# Altium footprint library Detectors.PcbLib: 58 footprints (part 1 of 4)
Each footprint in its own frame and in the unit in brackets; x right, y up, seen from the top. Pads: shape width x height; smd on the part's side, far side on the other; paste and mask are expansions set on the pad; w line width, h text height; cw(c..) or ccw(c..) is an arc to the next point about the centre after c.
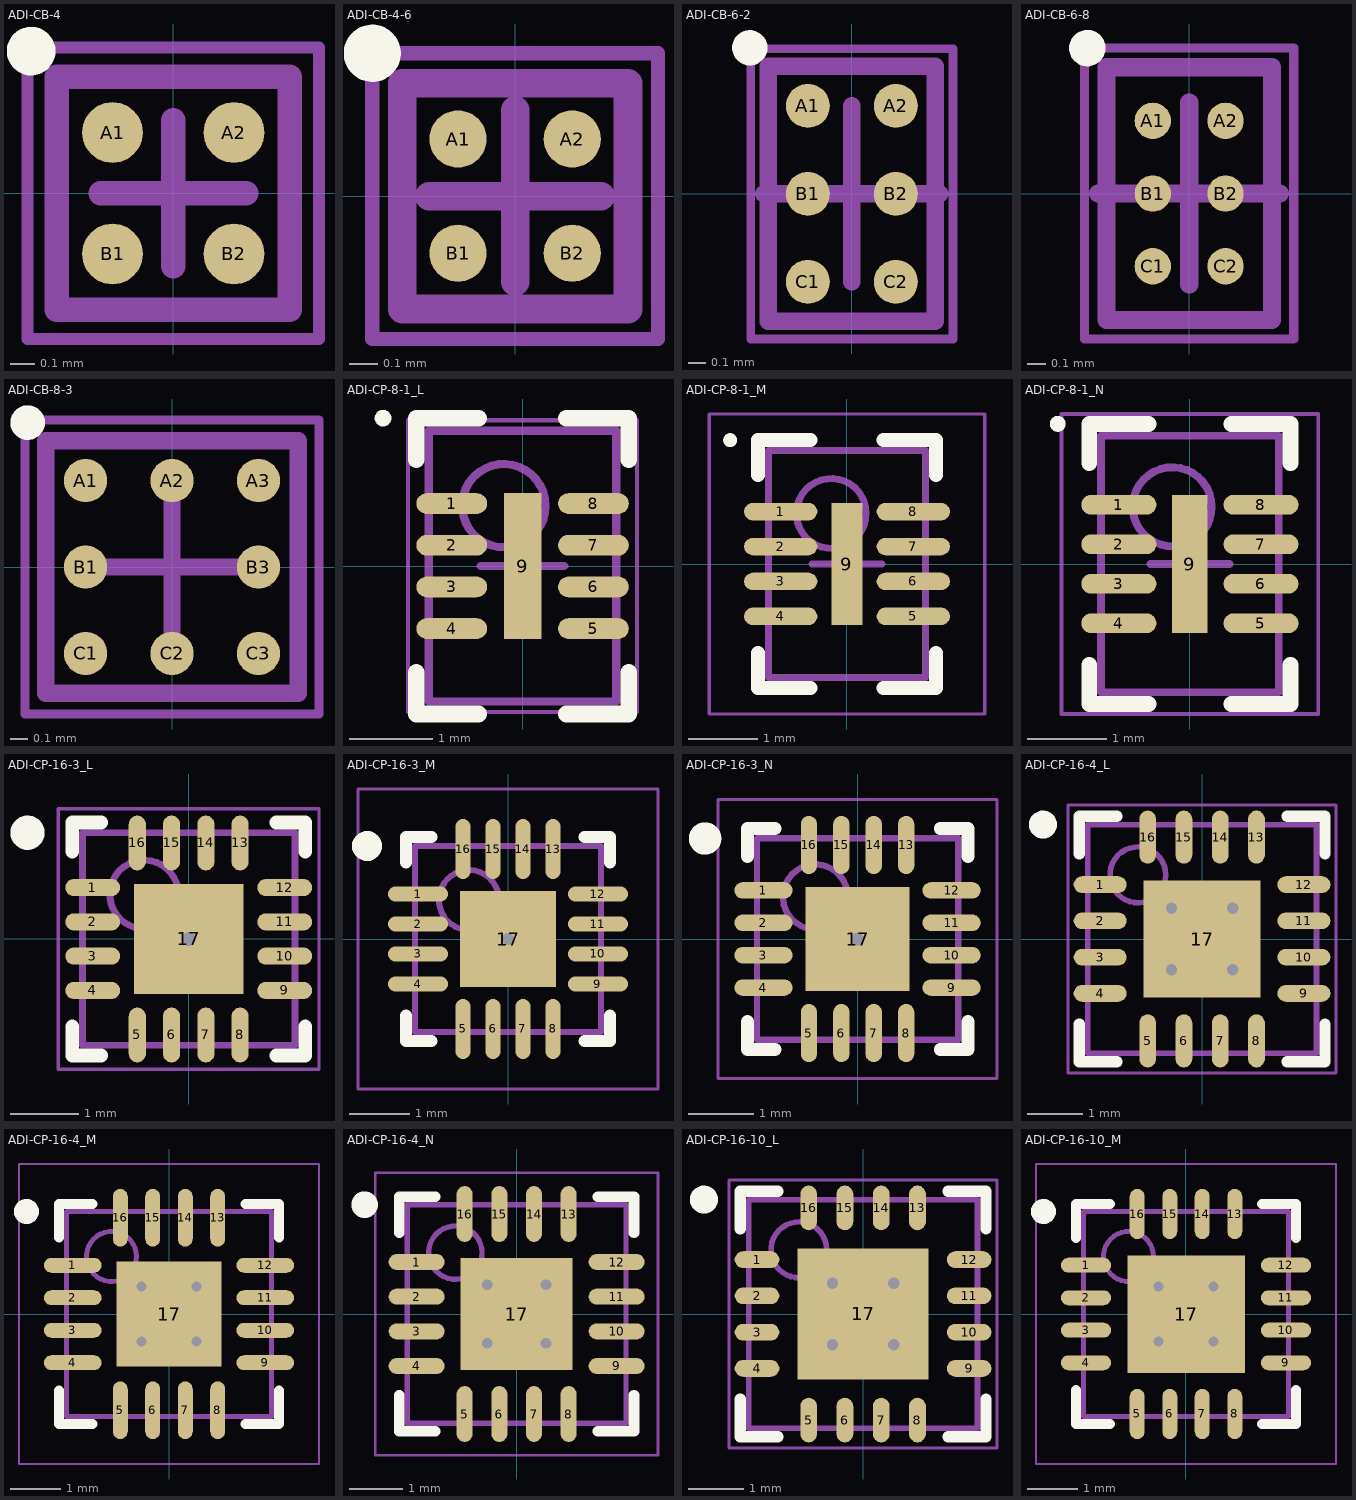
[diagram p0: the footprints below, top view; thin cyan lines are the x and y axes]

## ADI-CB-4 [mm] "BGA, 4-Leads, Body 0.96x0.96mm, Pitch 0.5mm"
height 0.68
pads (4):
  round 0.25 smd: A1(-0.25,0.25) A2(0.25,0.25) B1(-0.25,-0.25) B2(0.25,-0.25)
Top Overlay:
  circle w0.1: c-0.585,0.585 r0.05
Mechanical 13:
  lines w0.1: -0.48,-0.48 -0.48,0.48 0.48,0.48 0.48,-0.48 -0.48,-0.48
Mechanical 15:
  lines w0.05: -0.6,-0.6 -0.6,0.6 0.6,0.6 0.6,-0.6 -0.6,-0.6
  lines w0.1: -0.3,0 0.3,0 ; 0,-0.3 0,0.3
3D body: height 0.68, standoff 0, extent -0.48,-0.48 0.48,0.48

## ADI-CB-4-6 [mm] "BGA, 4-Leads, Body 0.79x0.79mm, Pitch 0.4mm"
height 0.66
pads (4):
  round 0.2 smd: A1(-0.2,0.2) A2(0.2,0.2) B1(-0.2,-0.2) B2(0.2,-0.2)
Top Overlay:
  circle w0.1: c-0.5,0.5 r0.05
Mechanical 13:
  lines w0.1: -0.395,-0.395 0.395,-0.395 0.395,0.395 -0.395,0.395 -0.395,-0.395
Mechanical 15:
  lines w0.05: -0.5,-0.5 0.5,-0.5 0.5,0.5 -0.5,0.5 -0.5,-0.5
  lines w0.1: -0.3,0 0.3,0 ; 0,-0.3 0,0.3
3D body: height 0.66, standoff 0, extent -0.395,-0.395 0.395,0.395

## ADI-CB-6-2 [mm] "BGA, 6-Leads, Body 1.5x1mm, Pitch 0.5mm"
height 0.68
pads (6):
  round 0.25 smd: A1(-0.25,0.5) A2(0.25,0.5) B1(-0.25,0) B2(0.25,0) C1(-0.25,-0.5) C2(0.25,-0.5)
Top Overlay:
  circle w0.1: c-0.58,0.83 r0.05
Mechanical 13:
  lines w0.1: -0.475,-0.725 -0.475,0.725 0.475,0.725 0.475,-0.725 -0.475,-0.725
Mechanical 15:
  lines w0.05: -0.575,-0.825 -0.575,0.825 0.575,0.825 0.575,-0.825 -0.575,-0.825
  lines w0.1: -0.5,0 0.5,0 ; 0,-0.5 0,0.5
3D body: height 0.68, standoff 0, extent -0.475,-0.725 0.475,0.725

## ADI-CB-6-8 [mm] "BGA, 6-Leads, Body 1.4x1mm, Pitch 0.4mm"
height 0.65
pads (6):
  round 0.2 smd: A1(-0.2,0.4) A2(0.2,0.4) B1(-0.2,0) B2(0.2,0) C1(-0.2,-0.4) C2(0.2,-0.4)
Top Overlay:
  circle w0.1: c-0.56,0.8 r0.05
Mechanical 13:
  lines w0.1: -0.455,-0.695 -0.455,0.695 0.455,0.695 0.455,-0.695 -0.455,-0.695
Mechanical 15:
  lines w0.05: -0.575,-0.8 -0.575,0.8 0.575,0.8 0.575,-0.8 -0.575,-0.8
  lines w0.1: -0.5,0 0.5,0 ; 0,-0.5 0,0.5
3D body: height 0.65, standoff 0, extent -0.455,-0.695 0.455,0.695

## ADI-CB-8-3 [mm] "BGA, 8-Leads, Body 1.46x1.46mm, Pitch 0.5mm"
height 0.63
pads (8):
  round 0.25 smd: A1(-0.5,0.5) A2(0,0.5) A3(0.5,0.5) B1(-0.5,0) B3(0.5,0) C1(-0.5,-0.5) C2(0,-0.5) C3(0.5,-0.5)
Top Overlay:
  circle w0.1: c-0.835,0.835 r0.05
Mechanical 13:
  lines w0.1: -0.73,-0.73 0.73,-0.73 0.73,0.73 -0.73,0.73 -0.73,-0.73
Mechanical 15:
  lines w0.05: -0.85,-0.85 0.85,-0.85 0.85,0.85 -0.85,0.85 -0.85,-0.85
  lines w0.1: -0.5,0 0.5,0 ; 0,-0.5 0,0.5
3D body: height 0.63, standoff 0, extent -0.73,-0.73 0.73,0.73

## ADI-CP-8-1_L [mm] "SON, 8-Leads, Body 3x2mm, Pitch 0.5mm, Thermal Pad 1.75x0.45mm, IPC High Density"
height 1
pads (9):
  oval 0.85x0.25 smd: 1(-0.85,0.75) 2(-0.85,0.25) 3(-0.85,-0.25) 4(-0.85,-0.75) 5(0.85,-0.75) 6(0.85,-0.25) 7(0.85,0.25) 8(0.85,0.75)
  rect 0.45x1.75 smd: 9(0,0)
Top Overlay:
  circle w0.1: c-1.675,1.775 r0.05
  lines w0.2: -1.275,-1.275 -1.275,-1.775 -0.525,-1.775 ; -1.275,1.275 -1.275,1.775 -0.525,1.775 ; 0.525,-1.775 1.275,-1.775 1.275,-1.275 ; 0.525,1.775 1.275,1.775 1.275,1.275
Mechanical 13:
  circle w0.1: c-0.225,0.725 r0.5
  lines w0.1: -1.125,-1.625 1.125,-1.625 1.125,1.625 -1.125,1.625 -1.125,-1.625
Mechanical 15:
  lines w0.05: -1.375,-1.75 1.375,-1.75 1.375,1.75 -1.375,1.75 -1.375,-1.75
  lines w0.1: -0.5,0 0.5,0 ; 0,-0.5 0,0.5
3D body: height 1, standoff 0, extent -1.125,-1.625 1.125,1.625

## ADI-CP-8-1_M [mm] "SON, 8-Leads, Body 3x2mm, Pitch 0.5mm, Thermal Pad 1.75x0.45mm, IPC Low Density"
height 1
pads (9):
  oval 1.05x0.25 smd: 1(-0.95,0.75) 2(-0.95,0.25) 3(-0.95,-0.25) 4(-0.95,-0.75) 5(0.95,-0.75) 6(0.95,-0.25) 7(0.95,0.25) 8(0.95,0.75)
  rect 0.45x1.75 smd: 9(0,0)
Top Overlay:
  circle w0.1: c-1.675,1.775 r0.05
  lines w0.2: -1.275,-1.275 -1.275,-1.775 -0.525,-1.775 ; -1.275,1.275 -1.275,1.775 -0.525,1.775 ; 0.525,-1.775 1.275,-1.775 1.275,-1.275 ; 0.525,1.775 1.275,1.775 1.275,1.275
Mechanical 13:
  circle w0.1: c-0.225,0.725 r0.5
  lines w0.1: -1.125,-1.625 1.125,-1.625 1.125,1.625 -1.125,1.625 -1.125,-1.625
Mechanical 15:
  lines w0.05: -1.975,-2.15 1.975,-2.15 1.975,2.15 -1.975,2.15 -1.975,-2.15
  lines w0.1: -0.5,0 0.5,0 ; 0,-0.5 0,0.5
3D body: height 1, standoff 0, extent -1.125,-1.625 1.125,1.625

## ADI-CP-8-1_N [mm] "SON, 8-Leads, Body 3x2mm, Pitch 0.5mm, Thermal Pad 1.75x0.45mm, IPC Medium Density"
height 1
pads (9):
  oval 0.95x0.25 smd: 1(-0.9,0.75) 2(-0.9,0.25) 3(-0.9,-0.25) 4(-0.9,-0.75) 5(0.9,-0.75) 6(0.9,-0.25) 7(0.9,0.25) 8(0.9,0.75)
  rect 0.45x1.75 smd: 9(0,0)
Top Overlay:
  circle w0.1: c-1.675,1.775 r0.05
  lines w0.2: -1.275,-1.275 -1.275,-1.775 -0.525,-1.775 ; -1.275,1.275 -1.275,1.775 -0.525,1.775 ; 0.525,-1.775 1.275,-1.775 1.275,-1.275 ; 0.525,1.775 1.275,1.775 1.275,1.275
Mechanical 13:
  circle w0.1: c-0.225,0.725 r0.5
  lines w0.1: -1.125,-1.625 1.125,-1.625 1.125,1.625 -1.125,1.625 -1.125,-1.625
Mechanical 15:
  lines w0.05: -1.625,-1.9 1.625,-1.9 1.625,1.9 -1.625,1.9 -1.625,-1.9
  lines w0.1: -0.5,0 0.5,0 ; 0,-0.5 0,0.5
3D body: height 1, standoff 0, extent -1.125,-1.625 1.125,1.625

## ADI-CP-16-3_L [mm] "QFN, 16-Leads, Body 3x3mm, Pitch 0.5mm, Thermal Pad 1.5x1.5mm, IPC High Density"
height 0.9
pads (17):
  oval 0.8x0.25 smd: 1(-1.4,0.75) 2(-1.4,0.25) 3(-1.4,-0.25) 4(-1.4,-0.75) 9(1.4,-0.75) 10(1.4,-0.25) 11(1.4,0.25) 12(1.4,0.75)
  oval 0.25x0.8 smd: 5(-0.75,-1.4) 6(-0.25,-1.4) 7(0.25,-1.4) 8(0.75,-1.4) 13(0.75,1.4) 14(0.25,1.4) 15(-0.25,1.4) 16(-0.75,1.4)
  rect 1.6x1.6 smd: 17(0,0)
via 0,0 diameter 0.5 hole 0.2
Top Overlay:
  circle w0.25: c-2.35,1.55 r0.125
  lines w0.2: -1.7,-1.275 -1.7,-1.7 -1.275,-1.7 ; -1.7,1.275 -1.7,1.7 -1.275,1.7 ; 1.275,-1.7 1.7,-1.7 1.7,-1.275 ; 1.275,1.7 1.7,1.7 1.7,1.275
Mechanical 13:
  circle w0.1: c-0.65,0.65 r0.5
  lines w0.1: -1.55,-1.55 1.55,-1.55 1.55,1.55 -1.55,1.55 -1.55,-1.55
Mechanical 15:
  lines w0.05: -1.9,-1.9 1.9,-1.9 1.9,1.9 -1.9,1.9 -1.9,-1.9
  lines w0.1: -0.5,0 0.5,0 ; 0,-0.5 0,0.5
3D body: height 0.9, standoff 0, extent -1.55,-1.55 1.55,1.55

## ADI-CP-16-3_M [mm] "QFN, 16-Leads, Body 3x3mm, Pitch 0.5mm, Thermal Pad 1.5x1.5mm, IPC Low Density"
height 0.9
pads (17):
  oval 1x0.25 smd: 1(-1.5,0.75) 2(-1.5,0.25) 3(-1.5,-0.25) 4(-1.5,-0.75) 9(1.5,-0.75) 10(1.5,-0.25) 11(1.5,0.25) 12(1.5,0.75)
  oval 0.25x1 smd: 5(-0.75,-1.5) 6(-0.25,-1.5) 7(0.25,-1.5) 8(0.75,-1.5) 13(0.75,1.5) 14(0.25,1.5) 15(-0.25,1.5) 16(-0.75,1.5)
  rect 1.6x1.6 smd: 17(0,0)
via 0,0 diameter 0.5 hole 0.2
Top Overlay:
  circle w0.25: c-2.35,1.55 r0.125
  lines w0.2: -1.7,-1.275 -1.7,-1.7 -1.275,-1.7 ; -1.7,1.275 -1.7,1.7 -1.275,1.7 ; 1.275,-1.7 1.7,-1.7 1.7,-1.275 ; 1.275,1.7 1.7,1.7 1.7,1.275
Mechanical 13:
  circle w0.1: c-0.65,0.65 r0.5
  lines w0.1: -1.55,-1.55 1.55,-1.55 1.55,1.55 -1.55,1.55 -1.55,-1.55
Mechanical 15:
  lines w0.05: -2.5,-2.5 2.5,-2.5 2.5,2.5 -2.5,2.5 -2.5,-2.5
  lines w0.1: -0.5,0 0.5,0 ; 0,-0.5 0,0.5
3D body: height 0.9, standoff 0, extent -1.55,-1.55 1.55,1.55

## ADI-CP-16-3_N [mm] "QFN, 16-Leads, Body 3x3mm, Pitch 0.5mm, Thermal Pad 1.5x1.5mm, IPC Medium Density"
height 0.9
pads (17):
  oval 0.9x0.25 smd: 1(-1.45,0.75) 2(-1.45,0.25) 3(-1.45,-0.25) 4(-1.45,-0.75) 9(1.45,-0.75) 10(1.45,-0.25) 11(1.45,0.25) 12(1.45,0.75)
  oval 0.25x0.9 smd: 5(-0.75,-1.45) 6(-0.25,-1.45) 7(0.25,-1.45) 8(0.75,-1.45) 13(0.75,1.45) 14(0.25,1.45) 15(-0.25,1.45) 16(-0.75,1.45)
  rect 1.6x1.6 smd: 17(0,0)
via 0,0 diameter 0.5 hole 0.2
Top Overlay:
  circle w0.25: c-2.35,1.55 r0.125
  lines w0.2: -1.7,-1.275 -1.7,-1.7 -1.275,-1.7 ; -1.7,1.275 -1.7,1.7 -1.275,1.7 ; 1.275,-1.7 1.7,-1.7 1.7,-1.275 ; 1.275,1.7 1.7,1.7 1.7,1.275
Mechanical 13:
  circle w0.1: c-0.65,0.65 r0.5
  lines w0.1: -1.55,-1.55 1.55,-1.55 1.55,1.55 -1.55,1.55 -1.55,-1.55
Mechanical 15:
  lines w0.05: -2.15,-2.15 2.15,-2.15 2.15,2.15 -2.15,2.15 -2.15,-2.15
  lines w0.1: -0.5,0 0.5,0 ; 0,-0.5 0,0.5
3D body: height 0.9, standoff 0, extent -1.55,-1.55 1.55,1.55

## ADI-CP-16-4_L [mm] "QFN, 16-Leads, Body 4x4mm, Pitch 0.65mm, Thermal Pad 2.1x2.1mm, IPC High Density"
height 1
pads (17):
  oval 0.95x0.3 smd: 1(-1.825,0.975) 2(-1.825,0.325) 3(-1.825,-0.325) 4(-1.825,-0.975) 9(1.825,-0.975) 10(1.825,-0.325) 11(1.825,0.325) 12(1.825,0.975)
  oval 0.3x0.95 smd: 5(-0.975,-1.825) 6(-0.325,-1.825) 7(0.325,-1.825) 8(0.975,-1.825) 13(0.975,1.825) 14(0.325,1.825) 15(-0.325,1.825) 16(-0.975,1.825)
  rect 2.1x2.1 smd: 17(0,0)
via 0.55,-0.55 diameter 0.5 hole 0.2
via -0.55,-0.55 diameter 0.5 hole 0.2
via 0.55,0.55 diameter 0.5 hole 0.2
via -0.55,0.55 diameter 0.5 hole 0.2
Top Overlay:
  circle w0.25: c-2.85,2.05 r0.125
  lines w0.2: -2.2,-1.525 -2.2,-2.2 -1.525,-2.2 ; -2.2,1.525 -2.2,2.2 -1.525,2.2 ; 1.525,-2.2 2.2,-2.2 2.2,-1.525 ; 1.525,2.2 2.2,2.2 2.2,1.525
Mechanical 13:
  circle w0.1: c-1.15,1.15 r0.5
  lines w0.1: -2.05,-2.05 2.05,-2.05 2.05,2.05 -2.05,2.05 -2.05,-2.05
Mechanical 15:
  lines w0.05: -2.4,-2.4 2.4,-2.4 2.4,2.4 -2.4,2.4 -2.4,-2.4
  lines w0.1: -0.5,0 0.5,0 ; 0,-0.5 0,0.5
3D body: height 1, standoff 0, extent -2.05,-2.05 2.05,2.05

## ADI-CP-16-4_M [mm] "QFN, 16-Leads, Body 4x4mm, Pitch 0.65mm, Thermal Pad 2.1x2.1mm, IPC Low Density"
height 1
pads (17):
  oval 1.15x0.3 smd: 1(-1.925,0.975) 2(-1.925,0.325) 3(-1.925,-0.325) 4(-1.925,-0.975) 9(1.925,-0.975) 10(1.925,-0.325) 11(1.925,0.325) 12(1.925,0.975)
  oval 0.3x1.15 smd: 5(-0.975,-1.925) 6(-0.325,-1.925) 7(0.325,-1.925) 8(0.975,-1.925) 13(0.975,1.925) 14(0.325,1.925) 15(-0.325,1.925) 16(-0.975,1.925)
  rect 2.1x2.1 smd: 17(0,0)
via 0.55,-0.55 diameter 0.5 hole 0.2
via -0.55,-0.55 diameter 0.5 hole 0.2
via 0.55,0.55 diameter 0.5 hole 0.2
via -0.55,0.55 diameter 0.5 hole 0.2
Top Overlay:
  circle w0.25: c-2.85,2.05 r0.125
  lines w0.2: -2.2,-1.525 -2.2,-2.2 -1.525,-2.2 ; -2.2,1.525 -2.2,2.2 -1.525,2.2 ; 1.525,-2.2 2.2,-2.2 2.2,-1.525 ; 1.525,2.2 2.2,2.2 2.2,1.525
Mechanical 13:
  circle w0.1: c-1.15,1.15 r0.5
  lines w0.1: -2.05,-2.05 2.05,-2.05 2.05,2.05 -2.05,2.05 -2.05,-2.05
Mechanical 15:
  lines w0.05: -3,-3 3,-3 3,3 -3,3 -3,-3
  lines w0.1: -0.5,0 0.5,0 ; 0,-0.5 0,0.5
3D body: height 1, standoff 0, extent -2.05,-2.05 2.05,2.05

## ADI-CP-16-4_N [mm] "QFN, 16-Leads, Body 4x4mm, Pitch 0.65mm, Thermal Pad 2.1x2.1mm, IPC Medium Density"
height 1
pads (17):
  oval 1.05x0.3 smd: 1(-1.875,0.975) 2(-1.875,0.325) 3(-1.875,-0.325) 4(-1.875,-0.975) 9(1.875,-0.975) 10(1.875,-0.325) 11(1.875,0.325) 12(1.875,0.975)
  oval 0.3x1.05 smd: 5(-0.975,-1.875) 6(-0.325,-1.875) 7(0.325,-1.875) 8(0.975,-1.875) 13(0.975,1.875) 14(0.325,1.875) 15(-0.325,1.875) 16(-0.975,1.875)
  rect 2.1x2.1 smd: 17(0,0)
via -0.55,0.55 diameter 0.5 hole 0.2
via 0.55,0.55 diameter 0.5 hole 0.2
via -0.55,-0.55 diameter 0.5 hole 0.2
via 0.55,-0.55 diameter 0.5 hole 0.2
Top Overlay:
  circle w0.25: c-2.85,2.05 r0.125
  lines w0.2: -2.2,-1.525 -2.2,-2.2 -1.525,-2.2 ; -2.2,1.525 -2.2,2.2 -1.525,2.2 ; 1.525,-2.2 2.2,-2.2 2.2,-1.525 ; 1.525,2.2 2.2,2.2 2.2,1.525
Mechanical 13:
  circle w0.1: c-1.15,1.15 r0.5
  lines w0.1: -2.05,-2.05 -2.05,2.05 2.05,2.05 2.05,-2.05 -2.05,-2.05
Mechanical 15:
  lines w0.05: -2.65,-2.65 -2.65,2.65 2.65,2.65 2.65,-2.65 -2.65,-2.65
  lines w0.1: -0.5,0 0.5,0 ; 0,-0.5 0,0.5
3D body: height 1, standoff 0, extent -2.05,-2.05 2.05,2.05

## ADI-CP-16-10_L [mm] "QFN, 16-Leads, Body 4x4mm, Pitch 0.65mm, Thermal Pad 2.35x2.35mm, IPC High Density"
height 1
pads (17):
  oval 0.8x0.3 smd: 1(-1.9,0.975) 2(-1.9,0.325) 3(-1.9,-0.325) 4(-1.9,-0.975) 9(1.9,-0.975) 10(1.9,-0.325) 11(1.9,0.325) 12(1.9,0.975)
  oval 0.3x0.8 smd: 5(-0.975,-1.9) 6(-0.325,-1.9) 7(0.325,-1.9) 8(0.975,-1.9) 13(0.975,1.9) 14(0.325,1.9) 15(-0.325,1.9) 16(-0.975,1.9)
  rect 2.35x2.35 smd: 17(0,0)
via -0.55,0.55 diameter 0.5 hole 0.2
via 0.55,0.55 diameter 0.5 hole 0.2
via -0.55,-0.55 diameter 0.5 hole 0.2
via 0.55,-0.55 diameter 0.5 hole 0.2
Top Overlay:
  circle w0.25: c-2.85,2.05 r0.125
  lines w0.2: -2.2,-1.525 -2.2,-2.2 -1.525,-2.2 ; -2.2,1.525 -2.2,2.2 -1.525,2.2 ; 1.525,-2.2 2.2,-2.2 2.2,-1.525 ; 1.525,2.2 2.2,2.2 2.2,1.525
Mechanical 13:
  circle w0.1: c-1.15,1.15 r0.5
  lines w0.1: -2.05,-2.05 -2.05,2.05 2.05,2.05 2.05,-2.05 -2.05,-2.05
Mechanical 15:
  lines w0.05: -2.4,-2.4 -2.4,2.4 2.4,2.4 2.4,-2.4 -2.4,-2.4
  lines w0.1: -0.5,0 0.5,0 ; 0,-0.5 0,0.5
3D body: height 1, standoff 0, extent -2.05,-2.05 2.05,2.05

## ADI-CP-16-10_M [mm] "QFN, 16-Leads, Body 4x4mm, Pitch 0.65mm, Thermal Pad 2.35x2.35mm, IPC Low Density"
height 1
pads (17):
  oval 1x0.3 smd: 1(-2,0.975) 2(-2,0.325) 3(-2,-0.325) 4(-2,-0.975) 9(2,-0.975) 10(2,-0.325) 11(2,0.325) 12(2,0.975)
  oval 0.3x1 smd: 5(-0.975,-2) 6(-0.325,-2) 7(0.325,-2) 8(0.975,-2) 13(0.975,2) 14(0.325,2) 15(-0.325,2) 16(-0.975,2)
  rect 2.35x2.35 smd: 17(0,0)
via -0.55,0.55 diameter 0.5 hole 0.2
via 0.55,0.55 diameter 0.5 hole 0.2
via -0.55,-0.55 diameter 0.5 hole 0.2
via 0.55,-0.55 diameter 0.5 hole 0.2
Top Overlay:
  circle w0.25: c-2.85,2.05 r0.125
  lines w0.2: -2.2,-1.525 -2.2,-2.2 -1.525,-2.2 ; -2.2,1.525 -2.2,2.2 -1.525,2.2 ; 1.525,-2.2 2.2,-2.2 2.2,-1.525 ; 1.525,2.2 2.2,2.2 2.2,1.525
Mechanical 13:
  circle w0.1: c-1.15,1.15 r0.5
  lines w0.1: -2.05,-2.05 -2.05,2.05 2.05,2.05 2.05,-2.05 -2.05,-2.05
Mechanical 15:
  lines w0.05: -3,-3 -3,3 3,3 3,-3 -3,-3
  lines w0.1: -0.5,0 0.5,0 ; 0,-0.5 0,0.5
3D body: height 1, standoff 0, extent -2.05,-2.05 2.05,2.05